# Altium schematic symbol library SSM2210.Schlib: 1 symbol
Pins are listed as number, name and electrical type; pins without a type are passive.

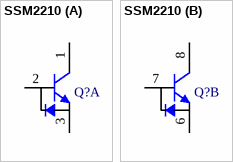
[diagram p0: symbol SSM2210]

## SSM2210
designator Q?
signal-integrity model Model Name (Model Description)
part A pins: 1 C1, 2 B1, 3 E1
part B pins: 6 E2, 7 B2, 8 C2